# EAGLE library part NE5532DR (library NE5532DR)
DUAL LOW-NOISE OPERATIONAL AMPLIFIERS
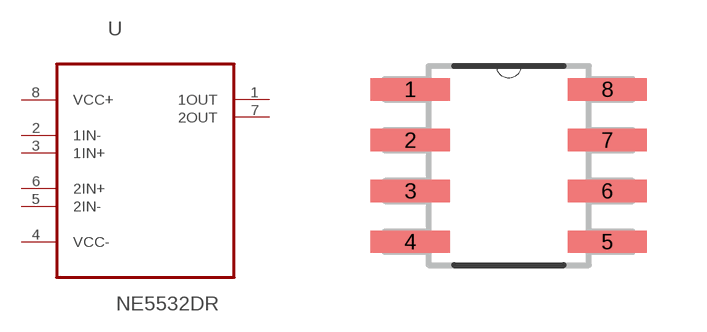
[diagram p0: symbol with the pads of SOIC127P600X175-8N; footprint SOIC127P600X175-8N]

Designator prefix U

## NE5532DR (Availability: Unavailable; Description: Dual Low-Noise High-Speed Audio Operational Amplifier 8-SOIC 0 to 70; MF: Texas Instruments; MP: NE5532DR; Package: SOIC-8 Texas Instruments; Price: None)  [SOIC127P600X175-8N]
1  1OUT  out
2  1IN-  in
3  1IN+  in
4  VCC-  pwr
5  2IN-  in
6  2IN+  in
7  2OUT  out
8  VCC+  pwr

## Footprint SOIC127P600X175-8N (pad centres in mm)
smd 1.981 x 0.559: 1 -2.464,1.905; 2 -2.464,0.635; 3 -2.464,-0.635; 4 -2.464,-1.905; 5 2.464,-1.905; 6 2.464,-0.635; 7 2.464,0.635; 8 2.464,1.905